# EAGLE library part MS5803-14BA_BREAKOUT (library High Ball Library)
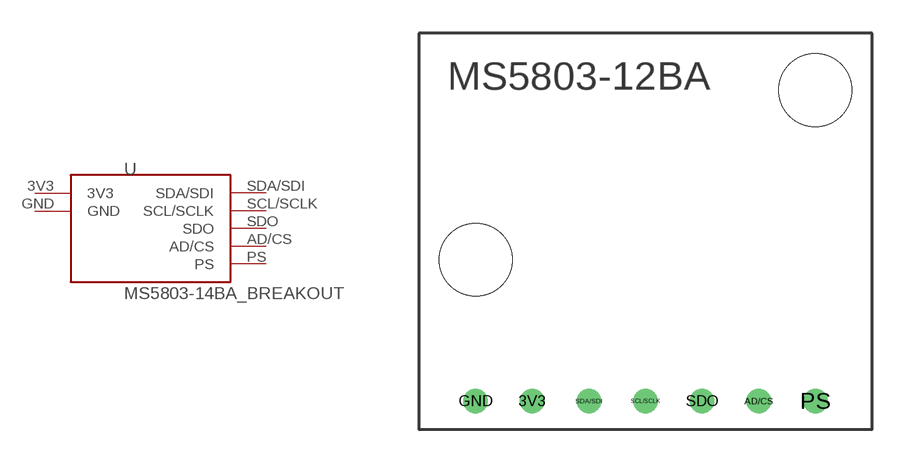
[diagram p1: symbol with the pads of MS5803-14BA_BREAKOUT; footprint MS5803-14BA_BREAKOUT]

Designator prefix -

## MS5803-14BA_BREAKOUT  [MS5803-14BA_BREAKOUT]
3V3  3V3
AD/CS  AD/CS
GND  GND
PS  PS
SCL/SCLK  SCL/SCLK
SDA/SDI  SDA/SDI
SDO  SDO

## Footprint MS5803-14BA_BREAKOUT (pad centres in mm)
drill 0.6: 3V3 5.08,1.27; AD/CS 15.24,1.27; GND 2.54,1.27; PS 17.78,1.27; SCL/SCLK 10.16,1.27; SDA/SDI 7.62,1.27; SDO 12.7,1.27
hole 3.264 at 17.78,15.24
hole 3.264 at 2.54,7.62